# EAGLE library part NRF52832_QF (library Nordic_nRF)
nRF52832 Features Single chip, highly flexible, 2.4 GHz multi-protocol SoC 32-bit ARM Cortex-M4F Processor 1.7v to 3.6v operation 512kB flash + 64kB RAM Supports concurrent Bluetooth Smart/ANT protocol operation On-chip NFC tag for Out-of-Band (OOB) pairing Up to +4dBm output power -96dBm sensitivity, Bluetooth Smart Thread safe and run-time protected Event driven API On air compatible with nRF24L and nRF24AP series 2 data rates (2Mbps/1Mbps) PPI - maximum flexibility for power-efficient applications and code simplification Automated power management system with automatic power management of each peripheral Configurable I/O mapping for analog and digital I/O 3 x Master/Slave SPI 2 x Two-wire interface (I²C) UART (RTS/CTS) 3 x PWM AES HW encryption Real Time Counter (RTC) Digital microphone interface (PDM) On-chip balun Applications Internet of Things (IoT) Wearables SmartHome sensors Connected white goods Computer peripherals Voice-command smart remotes A4WP ‘Rezence’ wireless charging Beacons Sports and fitness sensors and hubs Connected health products Smart watches RC Toys Interactive games Building automation and sensor networks
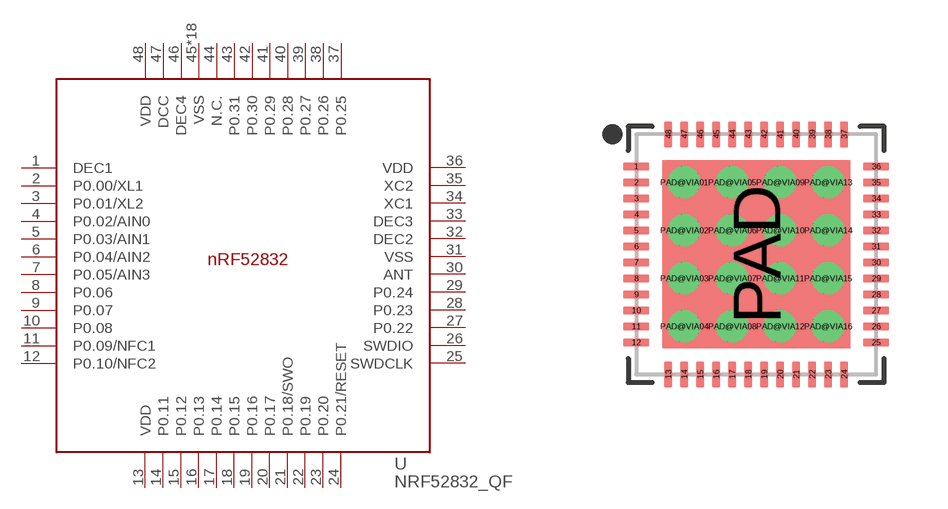
[diagram p1: symbol with the pads of QFN40P600X600X90-48_N; footprint QFN40P600X600X90-48_N]

Designator prefix -

## NRF52832_QF  [QFN40P600X600X90-48_N]
1  DEC1  pwr
2  P0.00/XL1
3  P0.01/XL2
4  P0.02/AIN0
5  P0.03/AIN1
6  P0.04/AIN2
7  P0.05/AIN3
8  P0.06
9  P0.07
10  P0.08
11  P0.09/NFC1
12  P0.10/NFC2
13  VDD  pwr
14  P0.11
15  P0.12
16  P0.13
17  P0.14
18  P0.15
19  P0.16
20  P0.17
21  P0.18/SWO
22  P0.19
23  P0.20
24  P0.21/RESET
25  SWDCLK  in
26  SWDIO
27  P0.22
28  P0.23
29  P0.24
30  ANT
31  VSS
32  DEC2
33  DEC3
34  XC1  in
35  XC2  out
36  VDD  pwr
37  P0.25
38  P0.26
39  P0.27
40  P0.28
41  P0.29
42  P0.30
43  P0.31
44  N.C.  nc
45  VSS  pwr
46  DEC4  pwr
47  DCC  out
48  VDD  pwr
PAD  VSS  pwr
PAD@VIA01  VSS  pwr
PAD@VIA02  VSS  pwr
PAD@VIA03  VSS  pwr
PAD@VIA04  VSS  pwr
PAD@VIA05  VSS  pwr
PAD@VIA06  VSS  pwr
PAD@VIA07  VSS  pwr
PAD@VIA08  VSS  pwr
PAD@VIA09  VSS  pwr
PAD@VIA10  VSS  pwr
PAD@VIA11  VSS  pwr
PAD@VIA12  VSS  pwr
PAD@VIA13  VSS  pwr
PAD@VIA14  VSS  pwr
PAD@VIA15  VSS  pwr
PAD@VIA16  VSS  pwr

## Footprint QFN40P600X600X90-48_N (pad centres in mm)
QFN40P600X600X90-48N QFN, 48-Leads Body 6.0x6.0mm (max) Pitch 0.40mm IPC Medium Density
smd 0.65 x 0.2: 1 -3,2.2; 2 -3,1.8; 3 -3,1.4; 4 -3,1; 5 -3,0.6; 6 -3,0.2; 7 -3,-0.2; 8 -3,-0.6; 9 -3,-1; 10 -3,-1.4; 11 -3,-1.8; 12 -3,-2.2; 25 3,-2.2; 26 3,-1.8; 27 3,-1.4; 28 3,-1; 29 3,-0.6; 30 3,-0.2; 31 3,0.2; 32 3,0.6; 33 3,1; 34 3,1.4; 35 3,1.8; 36 3,2.2
smd 0.2 x 0.65: 13 -2.2,-3; 14 -1.8,-3; 15 -1.4,-3; 16 -1,-3; 17 -0.6,-3; 18 -0.2,-3; 19 0.2,-3; 20 0.6,-3; 21 1,-3; 22 1.4,-3; 23 1.8,-3; 24 2.2,-3; 37 2.2,3; 38 1.8,3; 39 1.4,3; 40 1,3; 41 0.6,3; 42 0.2,3; 43 -0.2,3; 44 -0.6,3; 45 -1,3; 46 -1.4,3; 47 -1.8,3; 48 -2.2,3
smd 4.7 x 4.7: PAD 0,0
drill 0.3: PAD@VIA01 -1.8,1.8; PAD@VIA02 -1.8,0.6; PAD@VIA03 -1.8,-0.6; PAD@VIA04 -1.8,-1.8; PAD@VIA05 -0.6,1.8; PAD@VIA06 -0.6,0.6; PAD@VIA07 -0.6,-0.6; PAD@VIA08 -0.6,-1.8; PAD@VIA09 0.6,1.8; PAD@VIA10 0.6,0.6; PAD@VIA11 0.6,-0.6; PAD@VIA12 0.6,-1.8; PAD@VIA13 1.8,1.8; PAD@VIA14 1.8,0.6; PAD@VIA15 1.8,-0.6; PAD@VIA16 1.8,-1.8